# EAGLE library part TCA9543ADR (library TCA9543ADR)
2-Channel I2C Bus Switch With Interrupt Logic and Reset Source: Datasheet <http://www.ti.com/lit/gpn/tca9543a>
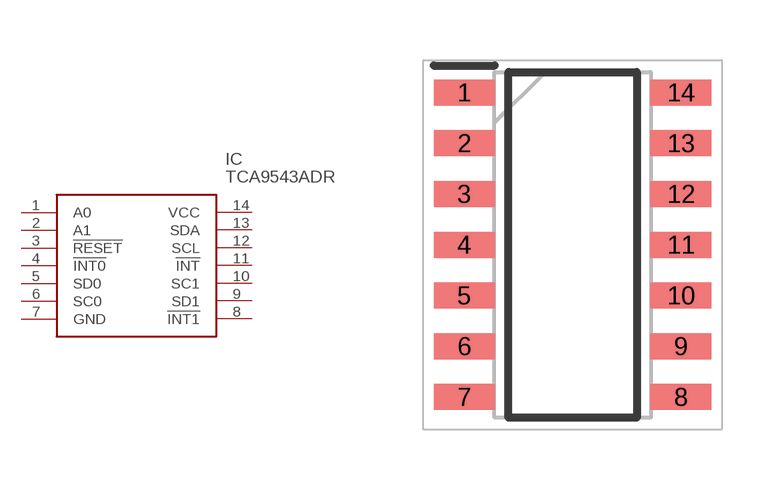
[diagram p0: symbol with the pads of SOIC127P600X175-14N; footprint SOIC127P600X175-14N]

Designator prefix IC

## TCA9543ADR (Description: 2-Channel I2C Bus Switch With Interrupt Logic and Reset; Height: 1.75mm; Manufacturer_Name: Texas Instruments; Manufacturer_Part_Number: TCA9543ADR; Mouser_Part_Number: 595-TCA9543ADR; Mouser_Price-Stock: https://www.mouser.co.uk/ProductDetail/Texas-Instruments/TCA9543ADR?qs=WuTGPxIYnC6YhvyolILbYg%3D%3D)  [SOIC127P600X175-14N]
1  A0  in
2  A1  in
3  !RESET  in
4  !INT0  in
5  SD0
6  SC0
7  GND  pwr
8  !INT1  in
9  SD1
10  SC1
11  !INT  in
12  SCL
13  SDA
14  VCC  pwr

## Footprint SOIC127P600X175-14N (pad centres in mm)
SOIC (14)
smd 1.525 x 0.65: 1 -2.712,3.81; 2 -2.712,2.54; 3 -2.712,1.27; 4 -2.712,0; 5 -2.712,-1.27; 6 -2.712,-2.54; 7 -2.712,-3.81; 8 2.712,-3.81; 9 2.712,-2.54; 10 2.712,-1.27; 11 2.712,0; 12 2.712,1.27; 13 2.712,2.54; 14 2.712,3.81